# Altium integrated library Altium Database Library V2.IntLib: 722 symbols (part 2 of 35)

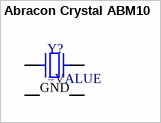
[diagram p23: symbol Abracon Crystal ABM10]

## Abracon Crystal ABM10
designator Y?
SMT Crystal
pins: 1, 2 GND, 3, 4 GND


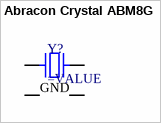
[diagram p24: symbol Abracon Crystal ABM8G]

## Abracon Crystal ABM8G
designator Y?
SMT Crystal
pins: 1, 2 GND, 3, 4 GND


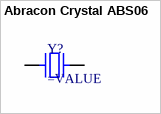
[diagram p25: symbol Abracon Crystal ABS06]

## Abracon Crystal ABS06
designator Y?
SMT Crystal
pins: 1, 2


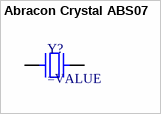
[diagram p26: symbol Abracon Crystal ABS07]

## Abracon Crystal ABS07
designator Y?
SMT Crystal
pins: 1, 2


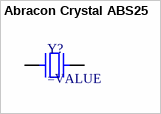
[diagram p27: symbol Abracon Crystal ABS25]

## Abracon Crystal ABS25
designator Y?
SMT Crystal
pins: 1, 4


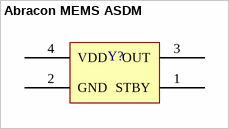
[diagram p28: symbol Abracon MEMS ASDM]

## Abracon MEMS ASDM
designator Y?
Pure Silicon Clock Oscillator
pins: 1 STBY, 2 GND, 3 OUT, 4 VDD


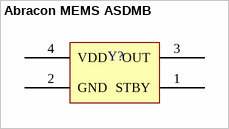
[diagram p29: symbol Abracon MEMS ASDMB]

## Abracon MEMS ASDMB
designator Y?
Pure Silicon Clock Oscillator
pins: 1 STBY, 2 GND, 3 OUT, 4 VDD


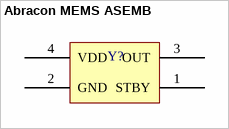
[diagram p30: symbol Abracon MEMS ASEMB]

## Abracon MEMS ASEMB
designator Y?
Pure Silicon Clock Oscillator
pins: 1 STBY, 2 GND, 3 OUT, 4 VDD


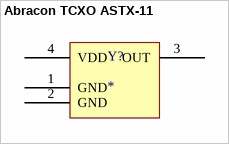
[diagram p31: symbol Abracon TCXO ASTX-11]

## Abracon TCXO ASTX-11
designator Y?
SMD CMOS Crystal Oscillator
pins: 1 GND, 2 GND, 3 OUT, 4 VDD


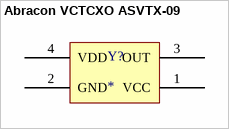
[diagram p32: symbol Abracon VCTCXO ASVTX-09]

## Abracon VCTCXO ASVTX-09
designator Y?
SMD CMOS Crystal Oscillator
pins: 1 VCC, 2 GND, 3 OUT, 4 VDD


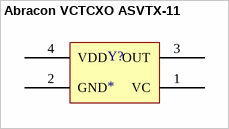
[diagram p33: symbol Abracon VCTCXO ASVTX-11]

## Abracon VCTCXO ASVTX-11
designator Y?
SMD CMOS Crystal Oscillator
pins: 1 VC, 2 GND, 3 OUT, 4 VDD


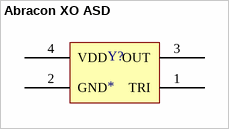
[diagram p34: symbol Abracon XO ASD]

## Abracon XO ASD
designator Y?
SMD CMOS Crystal Oscillator
pins: 1 TRI, 2 GND, 3 OUT, 4 VDD


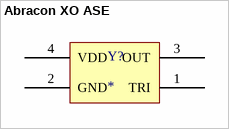
[diagram p35: symbol Abracon XO ASE]

## Abracon XO ASE
designator Y?
SMD CMOS Crystal Oscillator
pins: 1 TRI, 2 GND, 3 OUT, 4 VDD


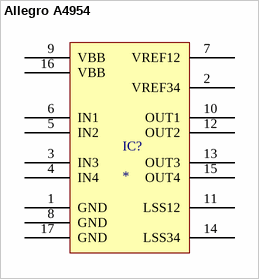
[diagram p36: symbol Allegro A4954]

## Allegro A4954
designator IC?
pins: 1 GND, 2 VREF34, 3 IN3, 4 IN4, 5 IN2, 6 IN1, 7 VREF12, 8 GND, 9 VBB, 10 OUT1, 11 LSS12, 12 OUT2, 13 OUT3, 14 LSS34, 15 OUT4, 16 VBB, 17 GND


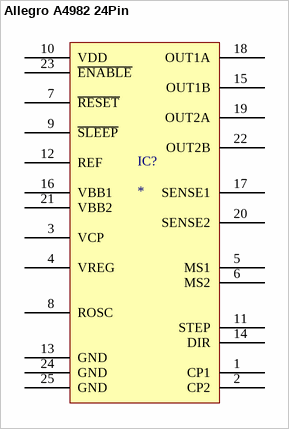
[diagram p37: symbol Allegro A4982 24Pin]

## Allegro A4982 24Pin
designator IC?
pins: 1 CP1, 2 CP2, 3 VCP, 4 VREG, 5 MS1, 6 MS2, 7 ~{RESET}, 8 ROSC, 9 ~{SLEEP}, 10 VDD, 11 STEP, 12 REF, 13 GND, 14 DIR, 15 OUT1B, 16 VBB1, 17 SENSE1, 18 OUT1A, 19 OUT2A, 20 SENSE2, 21 VBB2, 22 OUT2B, 23 ~{ENABLE}, 24 GND, 25 GND


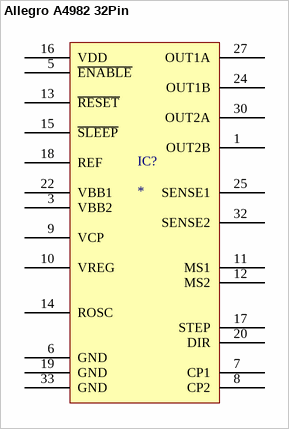
[diagram p38: symbol Allegro A4982 32Pin]

## Allegro A4982 32Pin
designator IC?
pins: 1 OUT2B, 3 VBB2, 5 ~{ENABLE}, 6 GND, 7 CP1, 8 CP2, 9 VCP, 10 VREG, 11 MS1, 12 MS2, 13 ~{RESET}, 14 ROSC, 15 ~{SLEEP}, 16 VDD, 17 STEP, 18 REF, 19 GND, 20 DIR, 22 VBB1, 24 OUT1B, 25 SENSE1, 27 OUT1A, 30 OUT2A, 32 SENSE2, 33 GND


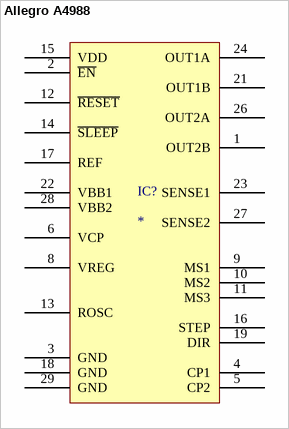
[diagram p39: symbol Allegro A4988]

## Allegro A4988
designator IC?
pins: 1 OUT2B, 2 ~{EN}, 3 GND, 4 CP1, 5 CP2, 6 VCP, 8 VREG, 9 MS1, 10 MS2, 11 MS3, 12 ~{RESET}, 13 ROSC, 14 ~{SLEEP}, 15 VDD, 16 STEP, 17 REF, 18 GND, 19 DIR, 21 OUT1B, 22 VBB1, 23 SENSE1, 24 OUT1A, 26 OUT2A, 27 SENSE2, 28 VBB2, 29 GND


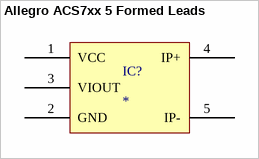
[diagram p40: symbol Allegro ACS7xx 5 Formed Leads]

## Allegro ACS7xx 5 Formed Leads
designator IC?
pins: 1 VCC, 2 GND, 3 VIOUT, 4 IP+, 5 IP-


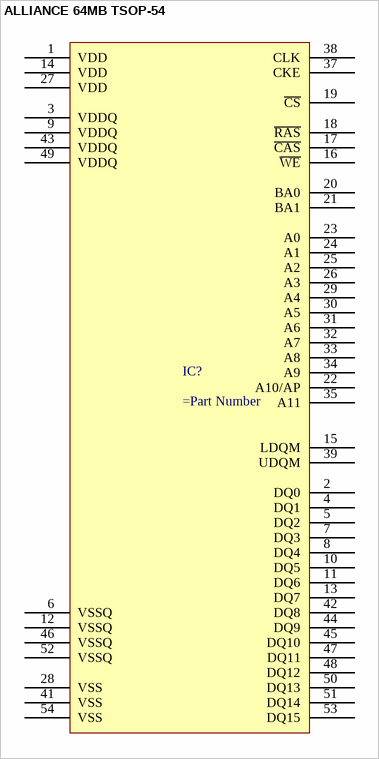
[diagram p41: symbol ALLIANCE 64MB TSOP-54]

## ALLIANCE 64MB TSOP-54
designator IC?
pins: 1 VDD, 2 DQ0, 3 VDDQ, 4 DQ1, 5 DQ2, 6 VSSQ, 7 DQ3, 8 DQ4, 9 VDDQ, 10 DQ5, 11 DQ6, 12 VSSQ, 13 DQ7, 14 VDD, 15 LDQM, 16 ~{WE}, 17 ~{CAS}, 18 ~{RAS}, 19 ~{CS}, 20 BA0, 21 BA1, 22 A10/AP, 23 A0, 24 A1, 25 A2, 26 A3, 27 VDD, 28 VSS, 29 A4, 30 A5, 31 A6, 32 A7, 33 A8, 34 A9, 35 A11, 37 CKE, 38 CLK, 39 UDQM, 41 VSS, 42 DQ8, 43 VDDQ, 44 DQ9, 45 DQ10, 46 VSSQ, 47 DQ11, 48 DQ12, 49 VDDQ, 50 DQ13, 51 DQ14, 52 VSSQ, 53 DQ15, 54 VSS


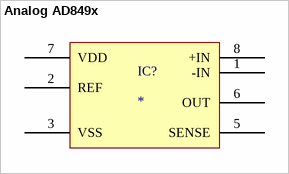
[diagram p42: symbol Analog AD849x]

## Analog AD849x
designator IC?
pins: 1 -IN, 2 REF, 3 VSS, 5 SENSE, 6 OUT, 7 VDD, 8 +IN


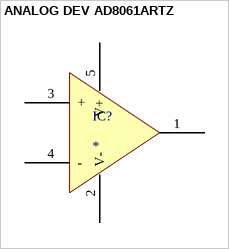
[diagram p43: symbol ANALOG DEV AD8061ARTZ]

## ANALOG DEV AD8061ARTZ
designator IC?
pins: 1 OUT, 2 V-, 3 +, 4 -, 5 V+


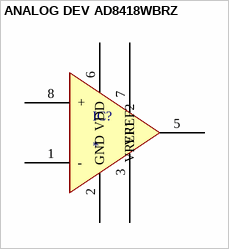
[diagram p44: symbol ANALOG DEV AD8418WBRZ]

## ANALOG DEV AD8418WBRZ
designator IC?
pins: 1 -, 2 GND, 3 VREF2, 5 OUT, 6 VDD, 7 VREF1, 8 +


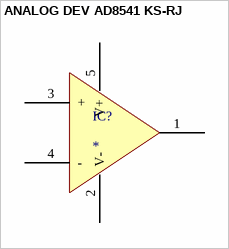
[diagram p45: symbol ANALOG DEV AD8541 KS-RJ]

## ANALOG DEV AD8541 KS-RJ
designator IC?
pins: 1 OUT, 2 V-, 3 +, 4 -, 5 V+
